# Altium schematic symbol library SW_SLIDE_RA_TH_DPDT.SchLib: 1 symbol
Pins are listed as number, name and electrical type; pins without a type are passive.

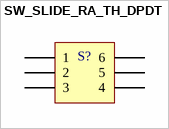
[diagram p0: symbol SW_SLIDE_RA_TH_DPDT]

## SW_SLIDE_RA_TH_DPDT
designator S?, comment SWITCH SLIDE DPDT 200MA 30V  (value not drawn)
Slide Switch DPDT Through Hole, Right Angle; Supplier 1: Mouser; Supplier Part Number 1: 612-EG2211
footprint SW_SLIDE_RA_TH_DPDT
pins: 1, 2, 3, 4, 5, 6